# EAGLE library part CBTL06DP212 (library nxp_60)
High-performance DisplayPort Gen2 2 : 1 multiplexer AAL Eindhoven MK
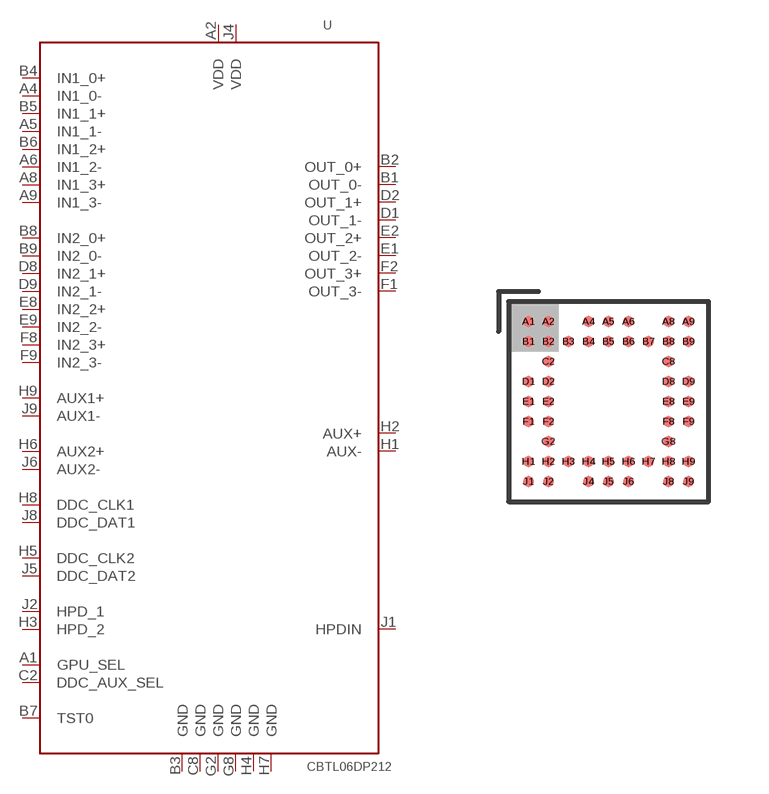
[diagram p36: symbol with the pads of SOT918-1; footprint SOT918-1]

Designator prefix U

## CBTL06DP212  [SOT918-1]
A1  GPU_SEL  in
A2  VDD  pwr
A4  IN1_0-  in
A5  IN1_1-  in
A6  IN1_2-  in
A8  IN1_3+  in
A9  IN1_3-  in
B1  OUT_0-
B2  OUT_0+
B3  GND  pwr
B4  IN1_0+  in
B5  IN1_1+  in
B6  IN1_2+  in
B7  TST0  in
B8  IN2_0+  in
B9  IN2_0-  in
C2  DDC_AUX_SEL  in
C8  GND  pwr
D1  OUT_1-
D2  OUT_1+
D8  IN2_1+  in
D9  IN2_1-  in
E1  OUT_2-
E2  OUT_2+
E8  IN2_2+  in
E9  IN2_2-  in
F1  OUT_3-
F2  OUT_3+
F8  IN2_3+  in
F9  IN2_3-  in
G2  GND  pwr
G8  GND  pwr
H1  AUX-
H2  AUX+
H3  HPD_2  in
H4  GND  pwr
H5  DDC_CLK2  in
H6  AUX2+  in
H7  GND  pwr
H8  DDC_CLK1  in
H9  AUX1+  in
J1  HPDIN  out
J2  HPD_1  in
J4  VDD  pwr
J5  DDC_DAT2  in
J6  AUX2-  in
J8  DDC_DAT1  in
J9  AUX1-  in

## Footprint SOT918-1 (pad centres in mm)
SOT918-1 TFBGA48: plastic thin fine-pitch ball grid array package; 48 balls; body 5 x 5 x 0.8 mm JEDEC: MO-195 IEC: --
smd 0.275 x 0.275: A1 -2,2; A2 -1.5,2; A4 -0.5,2; A5 0,2; A6 0.5,2; A8 1.5,2; A9 2,2; B1 -2,1.5; B2 -1.5,1.5; B3 -1,1.5; B4 -0.5,1.5; B5 0,1.5; B6 0.5,1.5; B7 1,1.5; B8 1.5,1.5; B9 2,1.5; C2 -1.5,1; C8 1.5,1; D1 -2,0.5; D2 -1.5,0.5; D8 1.5,0.5; D9 2,0.5; E1 -2,0; E2 -1.5,0; E8 1.5,0; E9 2,0; F1 -2,-0.5; F2 -1.5,-0.5; F8 1.5,-0.5; F9 2,-0.5; G2 -1.5,-1; G8 1.5,-1; H1 -2,-1.5; H2 -1.5,-1.5; H3 -1,-1.5; H4 -0.5,-1.5; H5 0,-1.5; H6 0.5,-1.5; H7 1,-1.5; H8 1.5,-1.5; H9 2,-1.5; J1 -2,-2; J2 -1.5,-2; J4 -0.5,-2; J5 0,-2; J6 0.5,-2; J8 1.5,-2; J9 2,-2